# EAGLE library part MAX3387E (library kotuku)
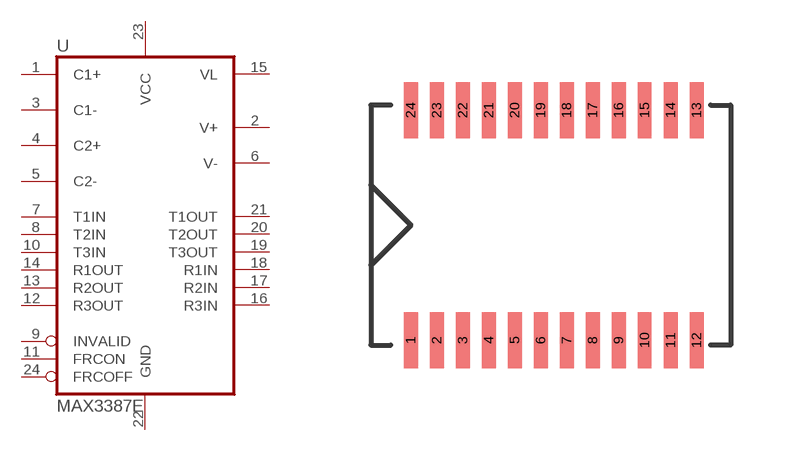
[diagram p12: symbol with the pads of TSSOP-24; footprint TSSOP-24]

Designator prefix -

## MAX3387E  [TSSOP-24]
1  C1+
2  V+
3  C1-
4  C2+
5  C2-
6  V-
7  T1IN  in
8  T2IN  in
9  INVALID  out
10  T3IN  in
11  FRCON  in
12  R3OUT  out
13  R2OUT  out
14  R1OUT  out
15  VL  pwr
16  R3IN  in
17  R2IN  in
18  R1IN  in
19  T3OUT  out
20  T2OUT  out
21  T1OUT  out
22  GND
23  VCC
24  FRCOFF

## Footprint TSSOP-24 (pad centres in mm)
smd 0.35 x 1.4: 1 0,-2.875; 2 0.65,-2.875; 3 1.3,-2.875; 4 1.95,-2.875; 5 2.6,-2.875; 6 3.25,-2.875; 7 3.9,-2.875; 8 4.55,-2.875; 9 5.2,-2.875; 10 5.85,-2.875; 11 6.5,-2.875; 12 7.15,-2.875; 13 7.15,2.875; 14 6.5,2.875; 15 5.85,2.875; 16 5.2,2.875; 17 4.55,2.875; 18 3.9,2.875; 19 3.25,2.875; 20 2.6,2.875; 21 1.95,2.875; 22 1.3,2.875; 23 0.65,2.875; 24 0,2.875